# EAGLE library part CY8C21323_SO20 (library CY8C4125AXI)
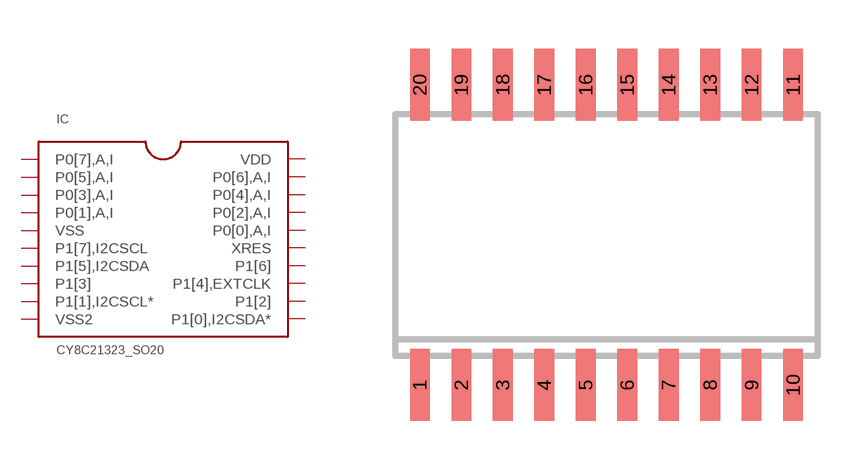
[diagram p20: symbol with the pads of SO20W; footprint SO20W]

Designator prefix IC

## CY8C21323_SO20  [SO20W]
1  P0[7],A,I
2  P0[5],A,I
3  P0[3],A,I
4  P0[1],A,I
5  VSS  pwr
6  P1[7],I2CSCL
7  P1[5],I2CSDA
8  P1[3]
9  P1[1],I2CSCL*
10  VSS2  pwr
11  P1[0],I2CSDA*
12  P1[2]
13  P1[4],EXTCLK
14  P1[6]
15  XRES
16  P0[0],A,I
17  P0[2],A,I
18  P0[4],A,I
19  P0[6],A,I
20  VDD  pwr

## Footprint SO20W (pad centres in mm)
SMALL OUTLINE INTEGRATED CIRCUIT wide body 7.5 mm/JEDEC MS-013AC
smd 0.6 x 2.2: 1 -5.715,-4.6; 2 -4.445,-4.6; 3 -3.175,-4.6; 4 -1.905,-4.6; 5 -0.635,-4.6; 6 0.635,-4.6; 7 1.905,-4.6; 8 3.175,-4.6; 9 4.445,-4.6; 10 5.715,-4.6; 11 5.715,4.6; 12 4.445,4.6; 13 3.175,4.6; 14 1.905,4.6; 15 0.635,4.6; 16 -0.635,4.6; 17 -1.905,4.6; 18 -3.175,4.6; 19 -4.445,4.6; 20 -5.715,4.6